# EAGLE library part STD020M11X1 (library con-pinheader-standard)
male standard header 2mm
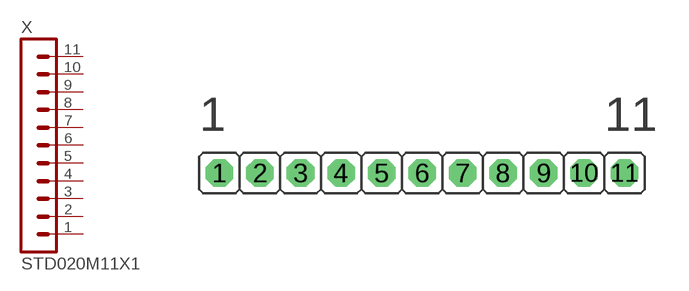
[diagram p40: symbol with the pads of STD020M11X1-2.00; footprint STD020M11X1-2.00]

Designator prefix X

## STD020M11X1-2.00MM  [STD020M11X1-2.00]
1  1  pas
2  2  pas
3  3  pas
4  4  pas
5  5  pas
6  6  pas
7  7  pas
8  8  pas
9  9  pas
10  10  pas
11  11  pas

## Footprint STD020M11X1-2.00 (pad centres in mm)
male standard header 2mm
drill 0.85 octagon: 1 -10,0; 2 -8,0; 3 -6,0; 4 -4,0; 5 -2,0; 6 0,0; 7 2,0; 8 4,0; 9 6,0; 10 8,0; 11 10,0